# EAGLE library part 62503422021 (library Wuerth_Elektronik_eiCan_Box_Header_&_IDC_Connectors_v1.2)
WR-BHD 2.00mm Male Box Header With Lever, 34 pins
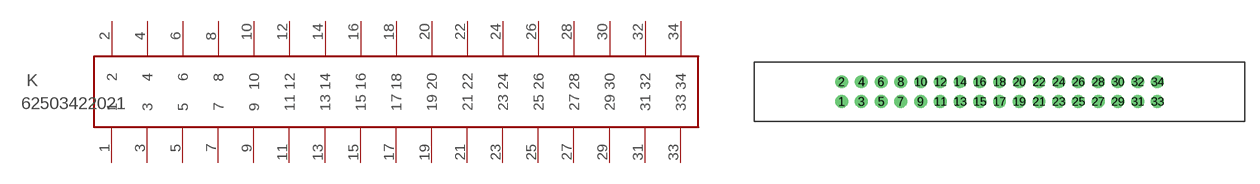
[diagram p15: symbol with the pads of 62503422021; footprint 62503422021]

Designator prefix K

## 62503422021  [62503422021]
1  1  pas
2  2  pas
3  3  pas
4  4  pas
5  5  pas
6  6  pas
7  7  pas
8  8  pas
9  9  pas
10  10  pas
11  11  pas
12  12  pas
13  13  pas
14  14  pas
15  15  pas
16  16  pas
17  17  pas
18  18  pas
19  19  pas
20  20  pas
21  21  pas
22  22  pas
23  23  pas
24  24  pas
25  25  pas
26  26  pas
27  27  pas
28  28  pas
29  29  pas
30  30  pas
31  31  pas
32  32  pas
33  33  pas
34  34  pas

## Footprint 62503422021 (pad centres in mm)
WR-BHD-2.00mm Male Box Header With Lever,34 pins
drill 0.8 round: 1 -13.27,-1; 2 -13.27,1; 3 -11.27,-1; 4 -11.27,1; 5 -9.27,-1; 6 -9.27,1; 7 -7.27,-1; 8 -7.27,1; 9 -5.27,-1; 10 -5.27,1; 11 -3.27,-1; 12 -3.27,1; 13 -1.27,-1; 14 -1.27,1; 15 0.73,-1; 16 0.73,1; 17 2.73,-1; 18 2.73,1; 19 4.73,-1; 20 4.73,1; 21 6.73,-1; 22 6.73,1; 23 8.73,-1; 24 8.73,1; 25 10.73,-1; 26 10.73,1; 27 12.73,-1; 28 12.73,1; 29 14.73,-1; 30 14.73,1; 31 16.73,-1; 32 16.73,1; 33 18.73,-1; 34 18.73,1